# EAGLE library part PCF8574AT (library 000_nl2)
IC, I/O EXPANDER, 8BIT, 16SOIC
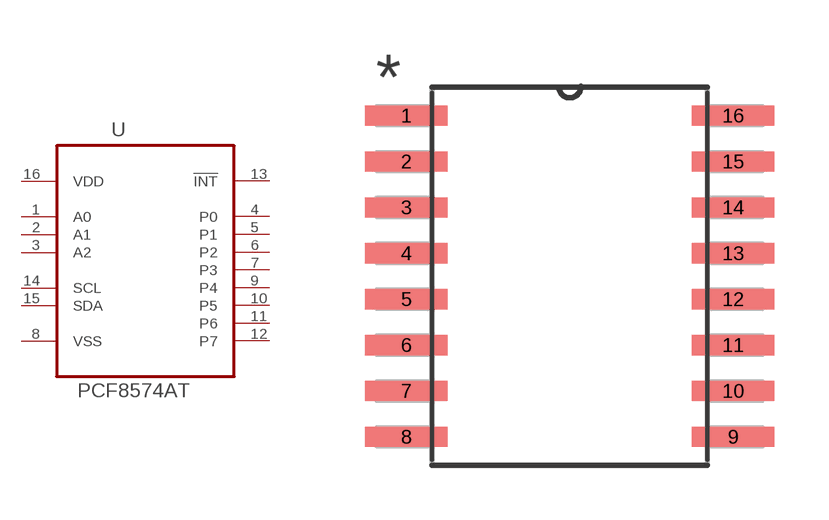
[diagram p22: symbol with the pads of SOIC127P1032X265-16N; footprint SOIC127P1032X265-16N]

Designator prefix U

## PCF8574AT (MPN: PCF8574AT; OC_FARNELL: 2101302; OC_NEWARK: 70R6866; PACKAGE: SOIC-16; SUPPLIER: NXP)  [SOIC127P1032X265-16N]
1  A0  in
2  A1  in
3  A2  in
4  P0
5  P1
6  P2
7  P3
8  VSS  pwr
9  P4
10  P5
11  P6
12  P7
13  !INT  out
14  SCL  in
15  SDA
16  VDD  pwr

## Footprint SOIC127P1032X265-16N (pad centres in mm)
smd 2.286 x 0.559: 1 -4.521,4.445; 2 -4.521,3.175; 3 -4.521,1.905; 4 -4.521,0.635; 5 -4.521,-0.635; 6 -4.521,-1.905; 7 -4.521,-3.175; 8 -4.521,-4.445; 9 4.521,-4.445; 10 4.521,-3.175; 11 4.521,-1.905; 12 4.521,-0.635; 13 4.521,0.635; 14 4.521,1.905; 15 4.521,3.175; 16 4.521,4.445